# Altium schematic symbol library zxevo.SCHLIB: 82 symbols (part 2 of 2)
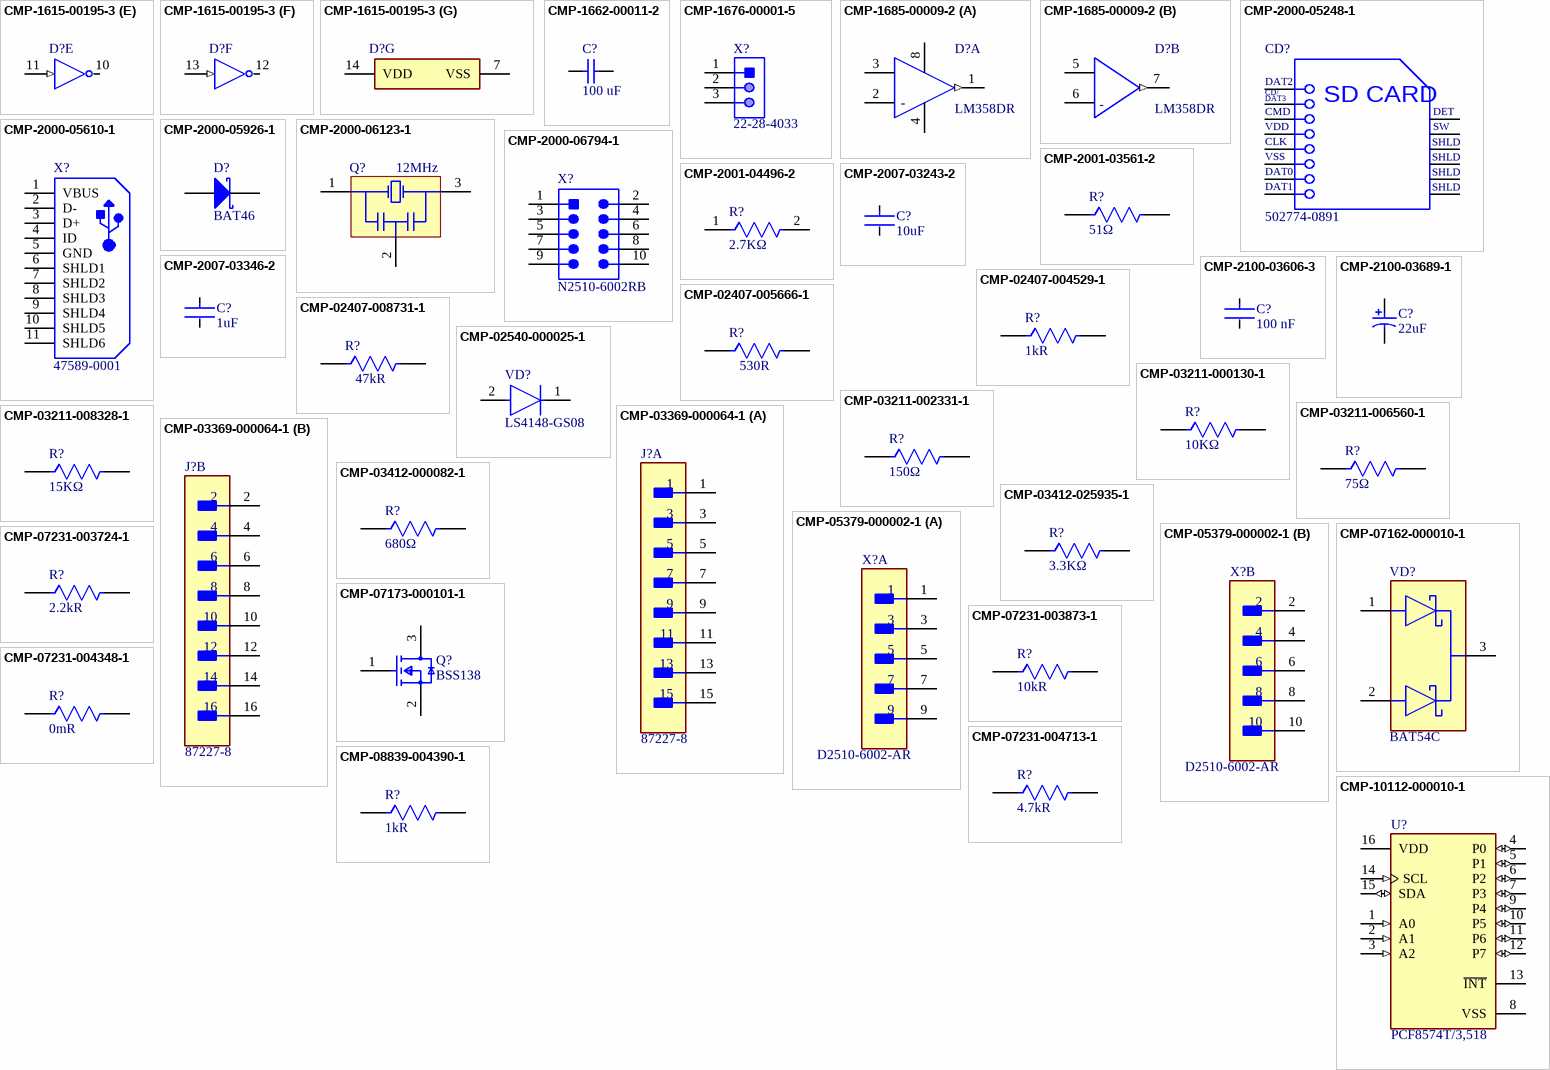
[diagram p4: symbols CMP-1615-00195-3 to CMP-10112-000010-1]

## CMP-07231-004713-1
designator R?, comment Resistance: 4.7kR  (hidden comment: CR0805-JW-472ELF)
Thick Film Chip Resistors 0805 4.7kΩ 0.125W 5% 200ppm/°C; Manufacturer: Bourns; Max Power Dissipation: 125mW; Voltage Rating: 150V; Height: 0.024inch; Case/Package: 0805; Case Code (Metric): 2012; Number of Terminations: 2; Mount: Surface Mount; Termination: SMD/SMT; Length: 2mm; Case Code (Imperial): 0805; Depth: 1.25mm; Power Rating: 125mW; Voltage Rating (DC): 150V; Width: 0.049inch; Manufacturer Part Number: CR0805-JW-472ELF; value: 4.7kΩ
footprint FP-CR0805-MFG
footprint FP-CR0805-IPC_C
footprint FP-CR0805-IPC_B
footprint FP-CR0805-IPC_A
pins: 1, 2

## CMP-08839-004390-1
designator R?, comment Resistance: 1kR  (hidden comment: MCR10ERTJ102)
Thick Film Chip Resistor, 0805, 1kΩ, 5%, 200ppm/°C, 0.125W, 150V; Manufacturer: Rohm; Max Power Dissipation: 125mW; Height: 0.024inch; Case/Package: 0805; Length: 0.079inch; Number of Terminations: 2; Case Code (Metric): 2012; Voltage Rating (DC): 150V; Case Code (Imperial): 0805; Width: 0.049inch; Series: MCR10; Manufacturer Part Number: MCR10ERTJ102; value: 1kΩ
footprint FP-MCR10-MFG
footprint FP-MCR10-IPC_A
footprint FP-MCR10-IPC_C
footprint FP-MCR10-IPC_B
pins: 1, 2

## CMP-10112-000010-1
designator U?, comment PCF8574T/3,518
IC I/O EXPANDER I2C 8B 16SOIC; Manufacturer: NXP Semiconductors; Frequency: 100kHz; Manufacturer Part Number: PCF8574T/3,518; ComponentLink2URL: https://www.nxp.com/docs/en/data-sheet/PCF8574_PCF8574A.pdf; Automotive: No; Mouser Description: PCF8574 Series 2.5 - 6V Remote 8-bit I/O Expander for I2C-bus - SOIC-16; Package: SOT162-1; Height: 2.65mm; Category: IC; value: PCF8574T/3,518
footprint FP-SOT162-1-MFG
footprint FP-SOT162-1-IPC_C
footprint FP-SOT162-1-IPC_B
footprint FP-SOT162-1-IPC_A
pins: 1 A0 (in), 2 A1 (in), 3 A2 (in), 4 P0 (io), 5 P1 (io), 6 P2 (io), 7 P3 (io), 8 VSS (power), 9 P4 (io), 10 P5 (io), 11 P6 (io), 12 P7 (io), 13 ~{INT} (oc), 14 SCL (in), 15 SDA (io), 16 VDD (power)

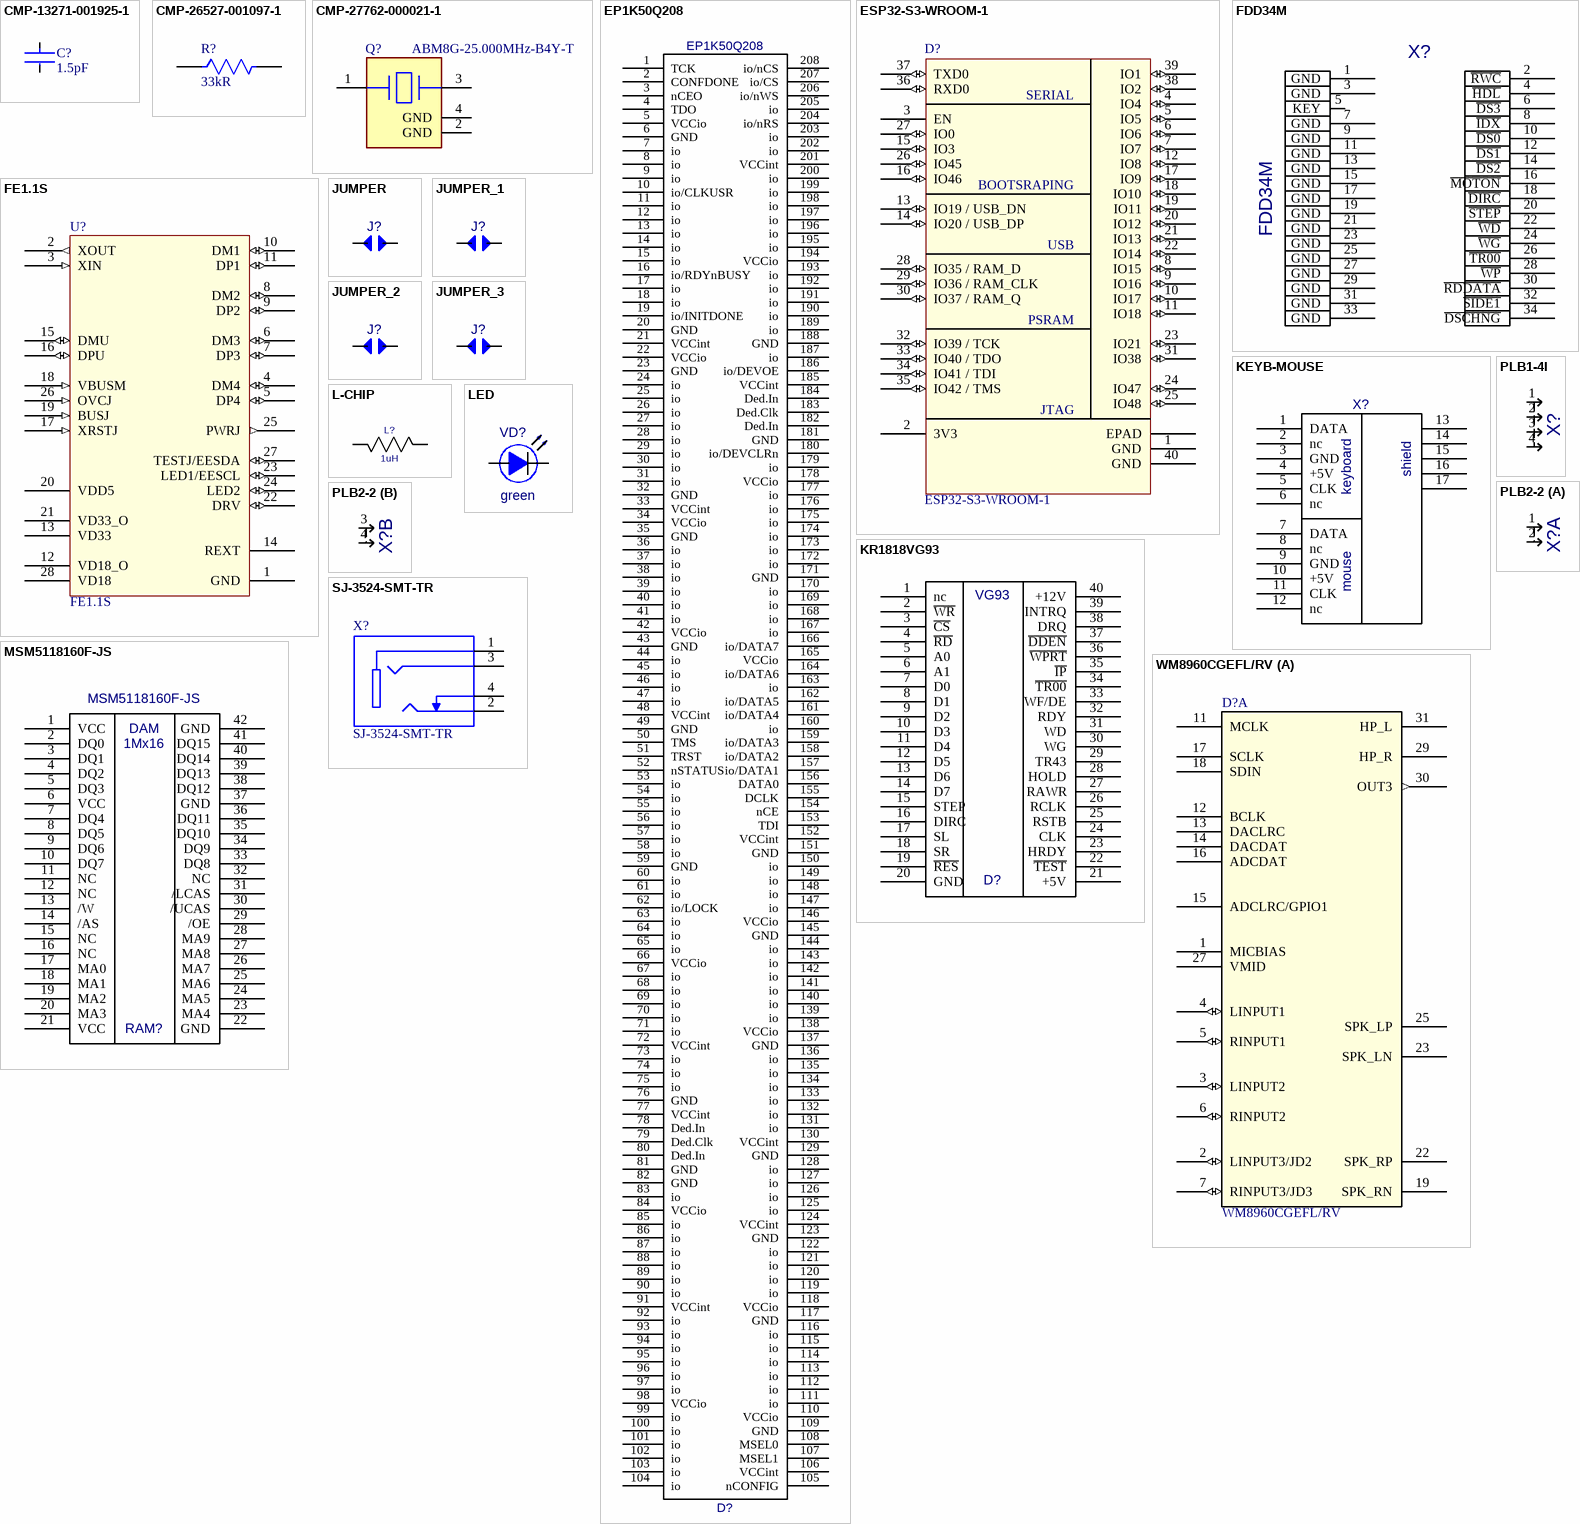
[diagram p2: symbols CMP-13271-001925-1 to WM8960CGEFL/RV]

## CMP-13271-001925-1
designator C?, comment Capacitance: 1.5pF  (hidden comment: CL21C1R5CBANNNC)
CL21 Series 0805 1.5pF 50V ±0.25pF Tolerance C0G Multilayer Ceramic Chip Capacitor; Manufacturer: Samsung; Case Code (Metric): 2012; Voltage Rating: 50V; Height: 0.65mm; Case/Package: 0805; Width: 0.049inch; Mount: Surface Mount; Length: 2mm; Voltage Rating (DC): 50V; Depth: 1.25mm; Case Code (Imperial): 0805; Manufacturer Part Number: CL21C1R5CBANNNC; value: 1.5pF
footprint FP-CL21-IPC_C
footprint FP-CL21-IPC_B
footprint FP-CL21-IPC_A
pins: 1, 2

## CMP-26527-001097-1
designator R?, comment Resistance: 33kR  (hidden comment: RMCF0805JT33K0)
33kΩ ±5% 0.125W 0805 Thick Film Chip Resistor AEC-Q200 compliant; Manufacturer: Stackpole Electronics; Power Rating: 125mW; Case Code (Imperial): 0805; Depth: 1.25mm; Width: 0.049inch; Height: 0.026inch; Number of Terminations: 2; Series: RMCF; Length: 2mm; Mount: Surface Mount; Case/Package: 0805; Case Code (Metric): 2012; Max Power Dissipation: 125mW; Manufacturer Part Number: RMCF0805JT33K0; value: 33kΩ
footprint FP-RMCF0805-IPC_B
footprint FP-RMCF0805-MFG
footprint FP-RMCF0805-IPC_C
footprint FP-RMCF0805-IPC_A
pins: 1, 2

## CMP-27762-000021-1
designator Q?, comment ABM8G-25.000MHz-B4Y-T
CRYSTAL 25.0000MHZ 10PF SMD; Manufacturer: Abracon; Frequency: 25MHz; value: 25MHz; Termination: SMD/SMT; Width: 0.098inch; Height: 0.039inch; Series: ABM8G; Depth: 2.5mm; Case/Package: SMD/SMT; Number of Pins: 4; Length: 3.2mm; Mount: Surface Mount; Manufacturer Part Number: ABM8G-25.000MHZ-B4Y-T
footprint FP-ABM8G-MFG
pins: 1, 2 GND (power), 3, 4 GND (power)

## EP1K50Q208
designator D?
Value: EP1K50Q208
footprint PQFP208X5
pins: 1 TCK, 2 CONFDONE, 3 nCEO, 4 TDO, 5 VCCio, 6 GND, 7 io, 8 io, 9 io, 10 io/CLKUSR, 11 io, 12 io, 13 io, 14 io, 15 io, 16 io/RDYnBUSY, 17 io, 18 io, 19 io/INITDONE, 20 GND, 21 VCCint, 22 VCCio, 23 GND, 24 io, 25 io, 26 io, 27 io, 28 io, 29 io, 30 io, 31 io, 32 GND, 33 VCCint, 34 VCCio, 35 GND, 36 io, 37 io, 38 io, 39 io, 40 io, 41 io, 42 VCCio, 43 GND, 44 io, 45 io, 46 io, 47 io, 48 VCCint, 49 GND, 50 TMS, 51 TRST, 52 nSTATUS, 53 io, 54 io, 55 io, 56 io, 57 io, 58 io, 59 GND, 60 io, 61 io, 62 io/LOCK, 63 io, 64 io, 65 io, 66 VCCio, 67 io, 68 io, 69 io, 70 io, 71 io, 72 VCCint, 73 io, 74 io, 75 io, 76 GND, 77 VCCint, 78 Ded.In, 79 Ded.Clk, 80 Ded.In, 81 GND, 82 GND, 83 io, 84 VCCio, 85 io, 86 io, 87 io, 88 io, 89 io, 90 io, 91 VCCint, 92 io, 93 io, 94 io, 95 io, 96 io, 97 io, 98 VCCio, 99 io, 100 io, 101 io, 102 io, 103 io, 104 io, 105 nCONFIG, 106 VCCint, 107 MSEL1, 108 MSEL0, 109 GND, 110 VCCio, 111 io, 112 io, 113 io, 114 io, 115 io, 116 io, 117 GND, 118 VCCio, 119 io, 120 io, 121 io, 122 io, 123 GND, 124 VCCint, 125 io, 126 io, 127 io, 128 io, 129 GND, 130 VCCint, 131 io, 132 io, 133 io, 134 io, 135 io, 136 io, 137 GND, 138 VCCio, 139 io, 140 io, 141 io, 142 io, 143 io, 144 io, 145 GND, 146 VCCio, 147 io, 148 io, 149 io, 150 io, 151 GND, 152 VCCint, 153 TDI, 154 nCE, 155 DCLK, 156 DATA0, 157 io/DATA1, 158 io/DATA2, 159 io/DATA3, 160 io, 161 io/DATA4, 162 io/DATA5, 163 io, 164 io/DATA6, 165 VCCio, 166 io/DATA7, 167 io, 168 io, 169 io, 170 io, 171 GND, 172 io, 173 io, 174 io, 175 io, 176 io, 177 io, 178 VCCio, 179 io, 180 io/DEVCLRn, 181 GND, 182 Ded.In, 183 Ded.Clk, 184 Ded.In, 185 VCCint, 186 io/DEVOE, 187 io, 188 GND, 189 io, 190 io, 191 io, 192 io, 193 io, 194 VCCio, 195 io, 196 io, 197 io, 198 io, 199 io, 200 io, 201 VCCint, 202 io, 203 io, 204 io/nRS, 205 io, 206 io/nWS, 207 io/CS, 208 io/nCS

## ESP32-S3-WROOM-1
designator D?
2.4 GHz Wi­Fi (802.11 b/g/n) and Bluetooth® 5 (LE) module / Built around ESP32­S3 series of SoCs, Xtensa® dual­core 32­bit LX7 microprocessor / Flash up to 16 MB, PSRAM up to 8 MB / 36 GPIOs, rich set of peripherals / Onboard PCB antenna or external antenna connector; value: ESP32-S3-WROOM-1
footprint ESP32S3WROOM1
pins: 1 GND (power), 2 3V3 (power) "Power supply", 3 EN (power) "High: on, enables the chip. Low: off, the chip powers off Note: Do not leave the EN pin floating", 4 IO4 (io) "RTC_GPIO4, GPIO4, TOUCH4, ADC1_CH3", 5 IO5 (io) "RTC_GPIO5, GPIO5, TOUCH5, ADC1_CH4", 6 IO6 (io) "RTC_GPIO6, GPIO6, TOUCH6, ADC1_CH5", 7 IO7 (io) "RTC_GPIO7, GPIO7, TOUCH7, ADC1_CH6", 8 IO15 (io) "RTC_GPIO15, GPIO15, U0RTS, ADC2_CH4, XTAL_32K_P", 9 IO16 (io) "RTC_GPIO16, GPIO16, U0CTS, ADC2_CH5, XTAL_32K_N", 10 IO17 (io) "RTC_GPIO17, GPIO17, U1TXD, ADC2_CH6", 11 IO18 (io) "RTC_GPIO18, GPIO18, U1RXD, ADC2_CH7, CLK_OUT3", 12 IO8 (io) "RTC_GPIO8, GPIO8, TOUCH8, ADC1_CH7, SUBSPICS1", 13 IO19 / USB_DN (io) "RTC_GPIO19, GPIO19, U1RTS, ADC2_CH8, CLK_OUT2, USB_D-", 14 IO20 / USB_DP (io) "RTC_GPIO20, GPIO20, U1CTS, ADC2_CH9, CLK_OUT1, USB_D+", 15 IO3 (io) "RTC_GPIO3, GPIO3, TOUCH3, ADC1_CH2", 16 IO46 (io) "GPIO46", 17 IO9 (io) "RTC_GPIO9, GPIO9, TOUCH9, ADC1_CH8, FSPIHD, SUBSPIHD", 18 IO10 (io) "RTC_GPIO10, GPIO10, TOUCH10, ADC1_CH9, FSPICS0, FSPIIO4, SUBSPICS0", 19 IO11 (io) "RTC_GPIO11, GPIO11, TOUCH11, ADC2_CH0, FSPID, FSPIIO5, SUBSPID", 20 IO12 (io) "RTC_GPIO12, GPIO12, TOUCH12, ADC2_CH1, FSPICLK, FSPIIO6, SUBSPICLK", 21 IO13 (io) "RTC_GPIO13, GPIO13, TOUCH13, ADC2_CH2, FSPIQ, FSPIIO7, SUBSPIQ", 22 IO14 (io) "RTC_GPIO14, GPIO14, TOUCH14, ADC2_CH3, FSPIWP, FSPIDQS, SUBSPIWP", 23 IO21 (io) "RTC_GPIO21, GPIO21", 24 IO47 (io) "SPICLK_P_DIFF,GPIO47, SUBSPICLK_P_DIFF", 25 IO48 (io) "SPICLK_N_DIFF,GPIO48, SUBSPICLK_N_DIFF", 26 IO45 (io) "GPIO45", 27 IO0 (io) "RTC_GPIO0, GPIO0", 28 IO35 / RAM_D (io) "SPIIO6, GPIO35, FSPID, SUBSPID", 29 IO36 / RAM_CLK (io) "SPIIO7, GPIO36, FSPICLK, SUBSPICLK", 30 IO37 / RAM_Q (io) "SPIDQS, GPIO37, FSPIQ, SUBSPIQ", 31 IO38 (io) "GPIO38, FSPIWP, SUBSPIWP", 32 IO39 / TCK (io) "MTCK, GPIO39, CLK_OUT3, SUBSPICS1", 33 IO40 / TDO (io) "MTDO, GPIO40, CLK_OUT2", 34 IO41 / TDI (io) "MTDI, GPIO41, CLK_OUT1", 35 IO42 / TMS (io) "MTMS, GPIO42", 36 RXD0 (io) "U0RXD, GPIO44, CLK_OUT2", 37 TXD0 (io) "U0TXD, GPIO43, CLK_OUT1", 38 IO2 (io) "RTC_GPIO2, GPIO2, TOUCH2, ADC1_CH1", 39 IO1 (io) "RTC_GPIO1, GPIO1, TOUCH1, ADC1_CH0", 40 GND (power), EPAD (power) "GND"
text: SERIAL; BOOTSRAPING; USB; PSRAM; JTAG

## FDD34M
designator X?
Value: Shrouded Header 34 pos 2.54mm 2 row
footprint FDD34M
pins: 1 GND, 2 ~{RWC}, 3 GND, 4 ~{HDL}, 5 KEY, 6 ~{DS3}, 7 GND, 8 ~{IDX}, 9 GND, 10 ~{DS0}, 11 GND, 12 ~{DS1}, 13 GND, 14 ~{DS2}, 15 GND, 16 ~{MOTON}, 17 GND, 18 ~{DIRC}, 19 GND, 20 ~{STEP}, 21 GND, 22 ~{WD}, 23 GND, 24 ~{WG}, 25 GND, 26 ~{TR00}, 27 GND, 28 ~{WP}, 29 GND, 30 ~{RDDATA}, 31 GND, 32 ~{SIDE1}, 33 GND, 34 ~{DSCHNG}

## FE1.1S
designator U?
USB 2.0 HIGH SPEED 4-PORT HUB CONTROLLER; Manufacturer: Terminus Technology Inc; PACKAGE: 28-pin SSOP (Body Size: 10x4 mm, Pitch: 0.64mm); value: FE1.1S
footprint TSOP64P600X160-28L (TSOP, 28-Leads, Body 9,90x3,90mm, Pitch 0,64mm, IPC High Density)
pins: 1 GND (power) "Ground", 2 XOUT (out) "12 MHz Crystal Oscillator output", 3 XIN (in) "12 MHz Crystal Oscillator input.", 4 DM4 (io) "The D- pin of the 4th Downstream Facing Port.", 5 DP4 (io) "The D+ pin of the 4th Downstream Facing Port", 6 DM3 (io) "The D- pin of the 3rd Downstream Facing Port.", 7 DP3 (io) "The D+ pin of the 3rd Downstream Facing Port.", 8 DM2 (io) "The D- pin of the 2nd Downstream Facing Port.", 9 DP2 (io) "The D+ pin of the 2nd Downstream Facing Port.", 10 DM1 (io) "The D- pin of the 1st Downstream Facing Port.", 11 DP1 (io) "The D+ pin of the 1st Downstream Facing Port.", 12 VD18_O (power) "1.8V power output from 3.3V→1.8V integrated regulator – a 10μF decoupling capacitor is required.", 13 VD33 (power) "3.3V power input for 3.3V→1.8V integrated regulator.", 14 REXT (power) "A 2.7KΩ (± 1%) resister should be connected to VSS to provide internal bias reference.", 15 DMU (io) "The D- pin of the Upstream Facing Port.", 16 DPU (io) "The D+ pin of the Upstream Facing Port.", 17 XRSTJ (in) "External Reset, active low, is an optional source of chip reset signal, beside the build-in Power-On-Reset. The minimum low pulse width is 10 μs.", 18 VBUSM (in) "The VBUS Monitor of upstream facing port.", 19 BUSJ (in) "Bus power indicator: 0 – Bus Powered; 1 – Self Powered.", 20 VDD5 (power) "5V power input for integrated 5V→3.3V regulator.", 21 VD33_O (power) "3.3V power output from 5V→3.3V integrated regulator – a 10μF decoupling capacitor is required.", 22 DRV (io) "LED Drive Control", 23 LED1/EESCL (io) "Port 1 and Port 3 Enabled Indicator (LED) Control, and external Serial EEPROM Clock", 24 LED2 (io) "Port 2 and Port 4 Enabled Indicator (LED) Control", 25 PWRJ (out) "Downstream Device Power Enable, active low, for Ganged Power Switching.", 26 OVCJ (in) "Over Current Indicator, active low, for Global Over-Current", 27 TESTJ/EESDA (io) "Test Mode Enable, active low with internal pull-up, and external Serial EEPROM Data/Address.", 28 VD18 (power) "1.8V power input."

## JUMPER
designator J?  (value not drawn)
HLT->~IP; Value: header 2 pos 2.54mm
footprint JUMPER
footprint JUMPER_JUMPER(Primary)
pins: 0 1, 1 2

## JUMPER_1
designator J?, comment JUMPER  (value not drawn)
12V enabled; Value: *
footprint JUMPER
pins: 0 1, 1 2

## JUMPER_2
designator J?, comment JUMPER  (value not drawn)
Soft Reset Key
footprint JUMPER
pins: 0 1, 1 2

## JUMPER_3
designator J?, comment JUMPER  (value not drawn)
Hard Reset Key; Value: *
footprint JUMPER
pins: 0 1, 1 2

## KEYB-MOUSE
designator X?  (value not drawn)
Value: *
footprint MDD-6FR
pins: 1 DATA, 2 nc, 3 GND, 4 +5V, 5 CLK, 6 nc, 7 DATA, 8 nc, 9 GND, 10 +5V, 11 CLK, 12 nc, 13 shield, 14 shield, 15 shield, 16 shield, 17 shield
text: keyboard; mouse

## KR1818VG93
designator D?  (value not drawn)
Value: *
footprint DIP40
pins: 1 nc, 2 ~{WR}, 3 ~{CS}, 4 ~{RD}, 5 A0, 6 A1, 7 D0, 8 D1, 9 D2, 10 D3, 11 D4, 12 D5, 13 D6, 14 D7, 15 STEP, 16 DIRC, 17 SL, 18 SR, 19 ~{RES}, 20 GND, 21 +5V, 22 ~{TEST}, 23 HRDY, 24 CLK, 25 RSTB, 26 RCLK, 27 RAWR, 28 HOLD, 29 TR43, 30 WG, 31 WD, 32 RDY, 33 WF/DE, 34 ~{TR00}, 35 ~{IP}, 36 ~{WPRT}, 37 ~{DDEN}, 38 DRQ, 39 INTRQ, 40 +12V
text: VG93

## L-CHIP
designator L?  value 1uH  (hidden comment: L-CHIP)
footprint L-CHIP
pins: 1, 2

## LED
designator VD?  value green  (hidden comment: LED)
Light Emitting Diode
footprint LED100
pins: A, K

## MSM5118160F-JS
designator RAM?
Value: *
footprint SOJ42
pins: 1 VCC, 2 DQ0, 3 DQ1, 4 DQ2, 5 DQ3, 6 VCC, 7 DQ4, 8 DQ5, 9 DQ6, 10 DQ7, 11 NC, 12 NC, 13 /W, 14 /AS, 15 NC, 16 NC, 17 MA0, 18 MA1, 19 MA2, 20 MA3, 21 VCC, 22 GND, 23 MA4, 24 MA5, 25 MA6, 26 MA7, 27 MA8, 28 MA9, 29 /OE, 30 /UCAS, 31 /LCAS, 32 NC, 33 DQ8, 34 DQ9, 35 DQ10, 36 DQ11, 37 GND, 38 DQ12, 39 DQ13, 40 DQ14, 41 DQ15, 42 GND
text: DAM; 1Mx16

## PLB1-4I
designator X?  (value not drawn)
Value: *
footprint PLB1-4I
pins: 1 I/O1, 2 I/O2, 3 I/O3, 4 I/O4

## PLB2-2
designator X?  (value not drawn)
Value: *
footprint PLB2-2
part A pins: 1, 2
part B pins: 3 1, 4 2

## SJ-3524-SMT-TR
designator X?
Connector
footprint SJ-3524-SMT-TR
pins: 1, 2, 3, 4

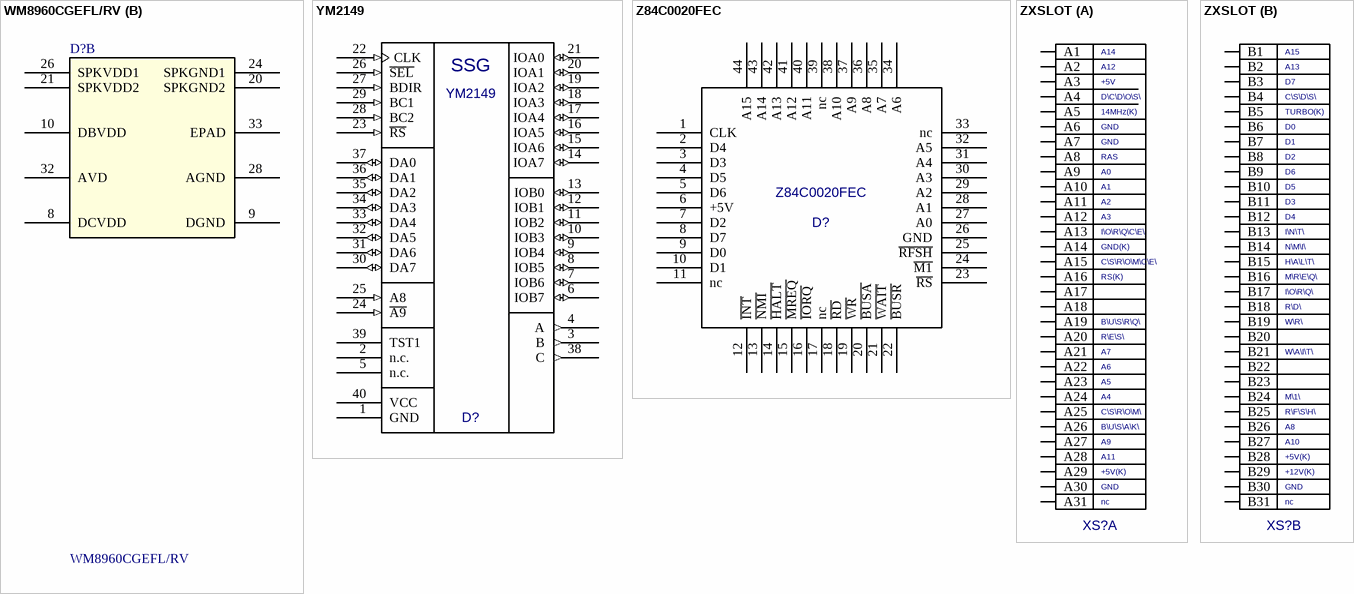
[diagram p3: symbols WM8960CGEFL/RV to ZXSLOT]

## WM8960CGEFL/RV
designator D?
Stereo CODEC with 1W Stereo Class-D speaker Drivers; value: WM8960CGEFL/RV
footprint QFN50P500X500X90_HS-33M (QFN, 32-Leads, Body 5,00x5,00mm, Pitch 0,50mm, Thermal Pad 3,45x3,45mm, IPC Low Density)
part A pins: 1 MICBIAS, 2 LINPUT3/JD2 (io), 3 LINPUT2 (io), 4 LINPUT1 (io), 5 RINPUT1 (io), 6 RINPUT2 (io), 7 RINPUT3/JD3 (io), 11 MCLK, 12 BCLK, 13 DACLRC, 14 DACDAT, 15 ADCLRC/GPIO1, 16 ADCDAT, 17 SCLK, 18 SDIN, 19 SPK_RN, 22 SPK_RP, 23 SPK_LN, 25 SPK_LP, 27 VMID, 29 HP_R, 30 OUT3 (out), 31 HP_L
part B pins: 8 DCVDD (power), 9 DGND, 10 DBVDD (power), 20 SPKGND2, 21 SPKVDD2 (power), 24 SPKGND1, 26 SPKVDD1 (power), 28 AGND, 32 AVD, 33 EPAD

## YM2149
designator D?
Value: YM2149
footprint DIP40
pins: 1 GND (power), 2 n.c., 3 B (out), 4 A (out), 5 n.c., 6 IOB7 (io), 7 IOB6 (io), 8 IOB5 (io), 9 IOB4 (io), 10 IOB3 (io), 11 IOB2 (io), 12 IOB1 (io), 13 IOB0 (io), 14 IOA7 (io), 15 IOA6 (io), 16 IOA5 (io), 17 IOA4 (io), 18 IOA3 (io), 19 IOA2 (io), 20 IOA1 (io), 21 IOA0 (io), 22 CLK (in), 23 ~{RS} (in), 24 ~{A9} (in), 25 A8 (in), 26 ~{SEL} (in), 27 BDIR (in), 28 BC2 (in), 29 BC1 (in), 30 DA7 (io), 31 DA6 (io), 32 DA5 (io), 33 DA4 (io), 34 DA3 (io), 35 DA2 (io), 36 DA1 (io), 37 DA0 (io), 38 C (out), 39 TST1, 40 VCC (power)
text: SSG

## Z84C0020FEC
designator D?
Value: Z84C0020FEC
footprint QFP44X8
pins: 1 CLK, 2 D4, 3 D3, 4 D5, 5 D6, 6 +5V, 7 D2, 8 D7, 9 D0, 10 D1, 11 nc, 12 ~{INT}, 13 ~{NMI}, 14 ~{HALT}, 15 ~{MREQ}, 16 ~{IORQ}, 17 nc, 18 ~{RD}, 19 ~{WR}, 20 ~{BUSA}, 21 ~{WAIT}, 22 ~{BUSR}, 23 ~{RS}, 24 ~{M1}, 25 ~{RFSH}, 26 GND, 27 A0, 28 A1, 29 A2, 30 A3, 31 A4, 32 A5, 33 nc, 34 A6, 35 A7, 36 A8, 37 A9, 38 A10, 39 nc, 40 A11, 41 A12, 42 A13, 43 A14, 44 A15

## ZXSLOT
designator XS?  (value not drawn)
Value: *
footprint SLOT62_ZXSLOT(Primary)
part A pins: A1, A2, A3, A4, A5, A6, A7, A8, A9, A10, A11, A12, A13, A14, A15, A16, A17, A18, A19, A20, A21, A22, A23, A24, A25, A26, A27, A28, A29, A30, A31
part B pins: B1, B2, B3, B4, B5, B6, B7, B8, B9, B10, B11, B12, B13, B14, B15, B16, B17, B18, B19, B20, B21, B22, B23, B24, B25, B26, B27, B28, B29, B30, B31
part A text: +5V; D\C\D\O\S\; 14MHz(K); GND; RAS; A0; I\O\R\Q\C\E\; GND(K); C\S\R\O\M\C\E\; RS(K); B\U\S\R\Q\; R\E\S\; C\S\R\O\M\; B\U\S\A\K\; +5V(K); nc
part B text: D7; C\S\D\S\; TURBO(K); D0; D1; D2; D6; D5; D3; D4; I\N\T\; N\M\I\; H\A\L\T\; M\R\E\Q\; I\O\R\Q\; R\D\; W\R\; W\A\I\T\; M\1\; R\F\S\H\; +5V(K); +12V(K); GND; nc